# EAGLE library part TC78H621FNG,EL (library 2022-04-24_08-48-59_Library)
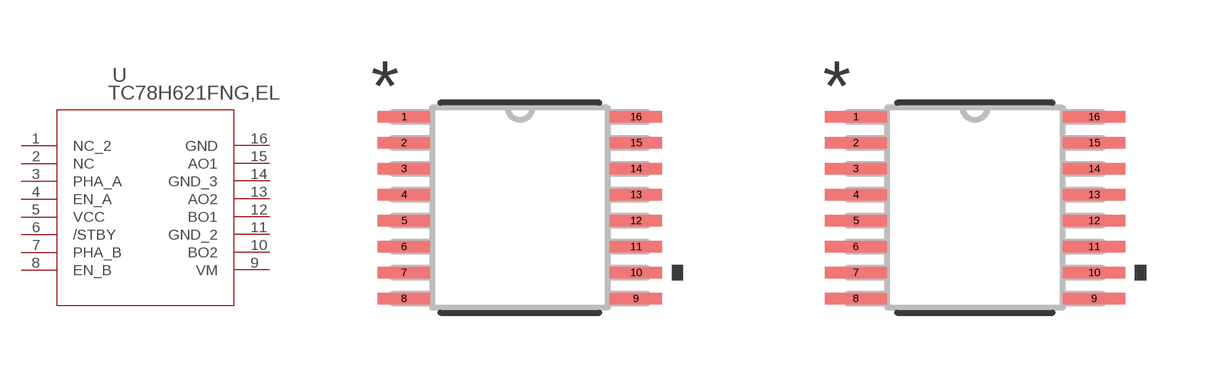
[diagram p0: symbol with the pads of P-TSSOP16-0505-0p65-001_TOS; footprints P-TSSOP16-0505-0p65-001_TOS, P-TSSOP16-0505-0p65-001_TOS-M]

Designator prefix U

## TC78H621FNG,ELP-TSSOP16-0505-0p65-001_TOS (Copyright: Copyright (C) 2022 Ultra Librarian. All rights reserved.; Manufacturer_Part_Number: TC78H621FNG,EL; Mfr_Name: Toshiba Electronic Devices & Storage Co.)  [P-TSSOP16-0505-0p65-001_TOS]
1  NC_2  nc
2  NC  nc
3  PHA_A  pas
4  EN_A  pas
5  VCC  pwr
6  /STBY  pas
7  PHA_B  pas
8  EN_B  pas
9  VM  pas
10  BO2
11  GND_2  pas
12  BO1
13  AO2
14  GND_3  pas
15  AO1
16  GND  pas

## TC78H621FNG,ELP-TSSOP16-0505-0p65-001_TOS-M (Copyright: Copyright (C) 2022 Ultra Librarian. All rights reserved.; Manufacturer_Part_Number: TC78H621FNG,EL; Mfr_Name: Toshiba Electronic Devices & Storage Co.)  [P-TSSOP16-0505-0p65-001_TOS-M]
Pads as for P-TSSOP16-0505-0p65-001_TOS

## TC78H621FNG,ELP-TSSOP16-0505-0p65-001_TOS-L (Copyright: Copyright (C) 2022 Ultra Librarian. All rights reserved.; Manufacturer_Part_Number: TC78H621FNG,EL; Mfr_Name: Toshiba Electronic Devices & Storage Co.)  [P-TSSOP16-0505-0p65-001_TOS-L]
Pads as for P-TSSOP16-0505-0p65-001_TOS

## Footprint P-TSSOP16-0505-0p65-001_TOS (pad centres in mm)
smd 1.311 x 0.281: 1 -2.9,2.275; 2 -2.9,1.625; 3 -2.9,0.975; 4 -2.9,0.325; 5 -2.9,-0.325; 6 -2.9,-0.975; 7 -2.9,-1.625; 8 -2.9,-2.275; 9 2.9,-2.275; 10 2.9,-1.625; 11 2.9,-0.975; 12 2.9,-0.325; 13 2.9,0.325; 14 2.9,0.975; 15 2.9,1.625; 16 2.9,2.275

## Footprint P-TSSOP16-0505-0p65-001_TOS-M (pad centres in mm)
smd 1.559 x 0.281: 1 -2.979,2.275; 2 -2.979,1.625; 3 -2.979,0.975; 4 -2.979,0.325; 5 -2.979,-0.325; 6 -2.979,-0.975; 7 -2.979,-1.625; 8 -2.979,-2.275; 9 2.979,-2.275; 10 2.979,-1.625; 11 2.979,-0.975; 12 2.979,-0.325; 13 2.979,0.325; 14 2.979,0.975; 15 2.979,1.625; 16 2.979,2.275

## Footprint P-TSSOP16-0505-0p65-001_TOS-L (pad centres in mm)
smd 1.006 x 0.23: 1 -2.849,2.275; 2 -2.849,1.625; 3 -2.849,0.975; 4 -2.849,0.325; 5 -2.849,-0.325; 6 -2.849,-0.975; 7 -2.849,-1.625; 8 -2.849,-2.275; 9 2.849,-2.275; 10 2.849,-1.625; 11 2.849,-0.975; 12 2.849,-0.325; 13 2.849,0.325; 14 2.849,0.975; 15 2.849,1.625; 16 2.849,2.275